# EAGLE library part LCD_DISPLAY_DEM20485 (library own_parts2)
DEM 20485 SBH-PW-N 4x20 Characters LCD Display (5V Supply) 4bit or 8bit data parallel interface required bottom spacing min. 2.5mm get it on www.reichelt.de <https://www.reichelt.de/lcd-modul-4x20-h-4-8mm-bl-ws-m-bel--lcd-pm-4x20-5-d-p197553.html?&trstct=pol_8&nbc=1>
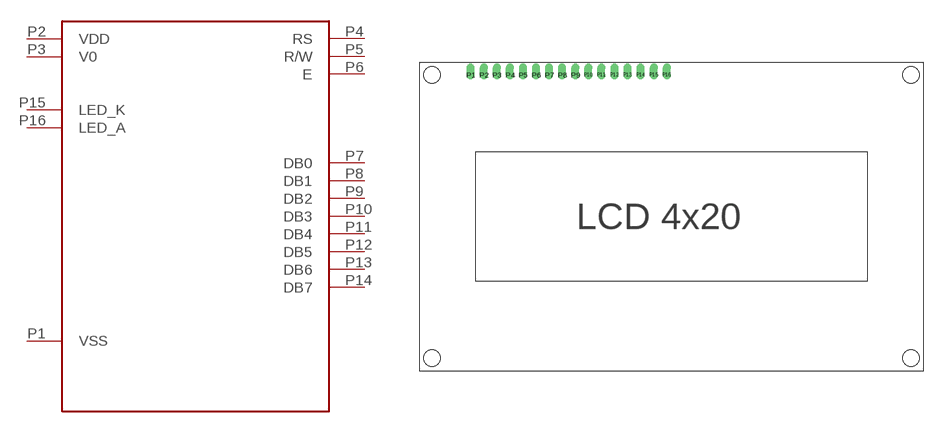
[diagram p3: symbol with the pads of LCD_DISPLAY_DEM20485; footprint LCD_DISPLAY_DEM20485]

Designator prefix LCD

## LCD_DISPLAY_DEM20485  [LCD_DISPLAY_DEM20485]
P1  VSS
P2  VDD
P3  V0
P4  RS
P5  R/W
P6  E
P7  DB0
P8  DB1
P9  DB2
P10  DB3
P11  DB4
P12  DB5
P13  DB6
P14  DB7
P15  LED_K
P16  LED_A

## Footprint LCD_DISPLAY_DEM20485 (pad centres in mm)
drill 1 offset: P1 10,57.46; P2 12.54,57.46; P3 15.08,57.46; P4 17.62,57.46; P5 20.16,57.46; P6 22.7,57.46; P7 25.24,57.46; P8 27.78,57.46; P9 30.32,57.46; P10 32.86,57.46; P11 35.4,57.46; P12 37.94,57.46; P13 40.48,57.46; P14 43.02,57.46; P15 45.56,57.46; P16 48.1,57.46
hole 3.2 at 2.5,2.5
hole 3.2 at 2.5,57.5
hole 3.2 at 95.5,57.5
hole 3.2 at 95.5,2.5